# Altium footprint library PCB_Library.PcbLib: 28 footprints (part 1 of 2)
Each footprint in its own frame and in the unit in brackets; x right, y up, seen from the top. Pads: shape width x height; smd on the part's side, far side on the other; paste and mask are expansions set on the pad; w line width, h text height; cw(c..) or ccw(c..) is an arc to the next point about the centre after c.
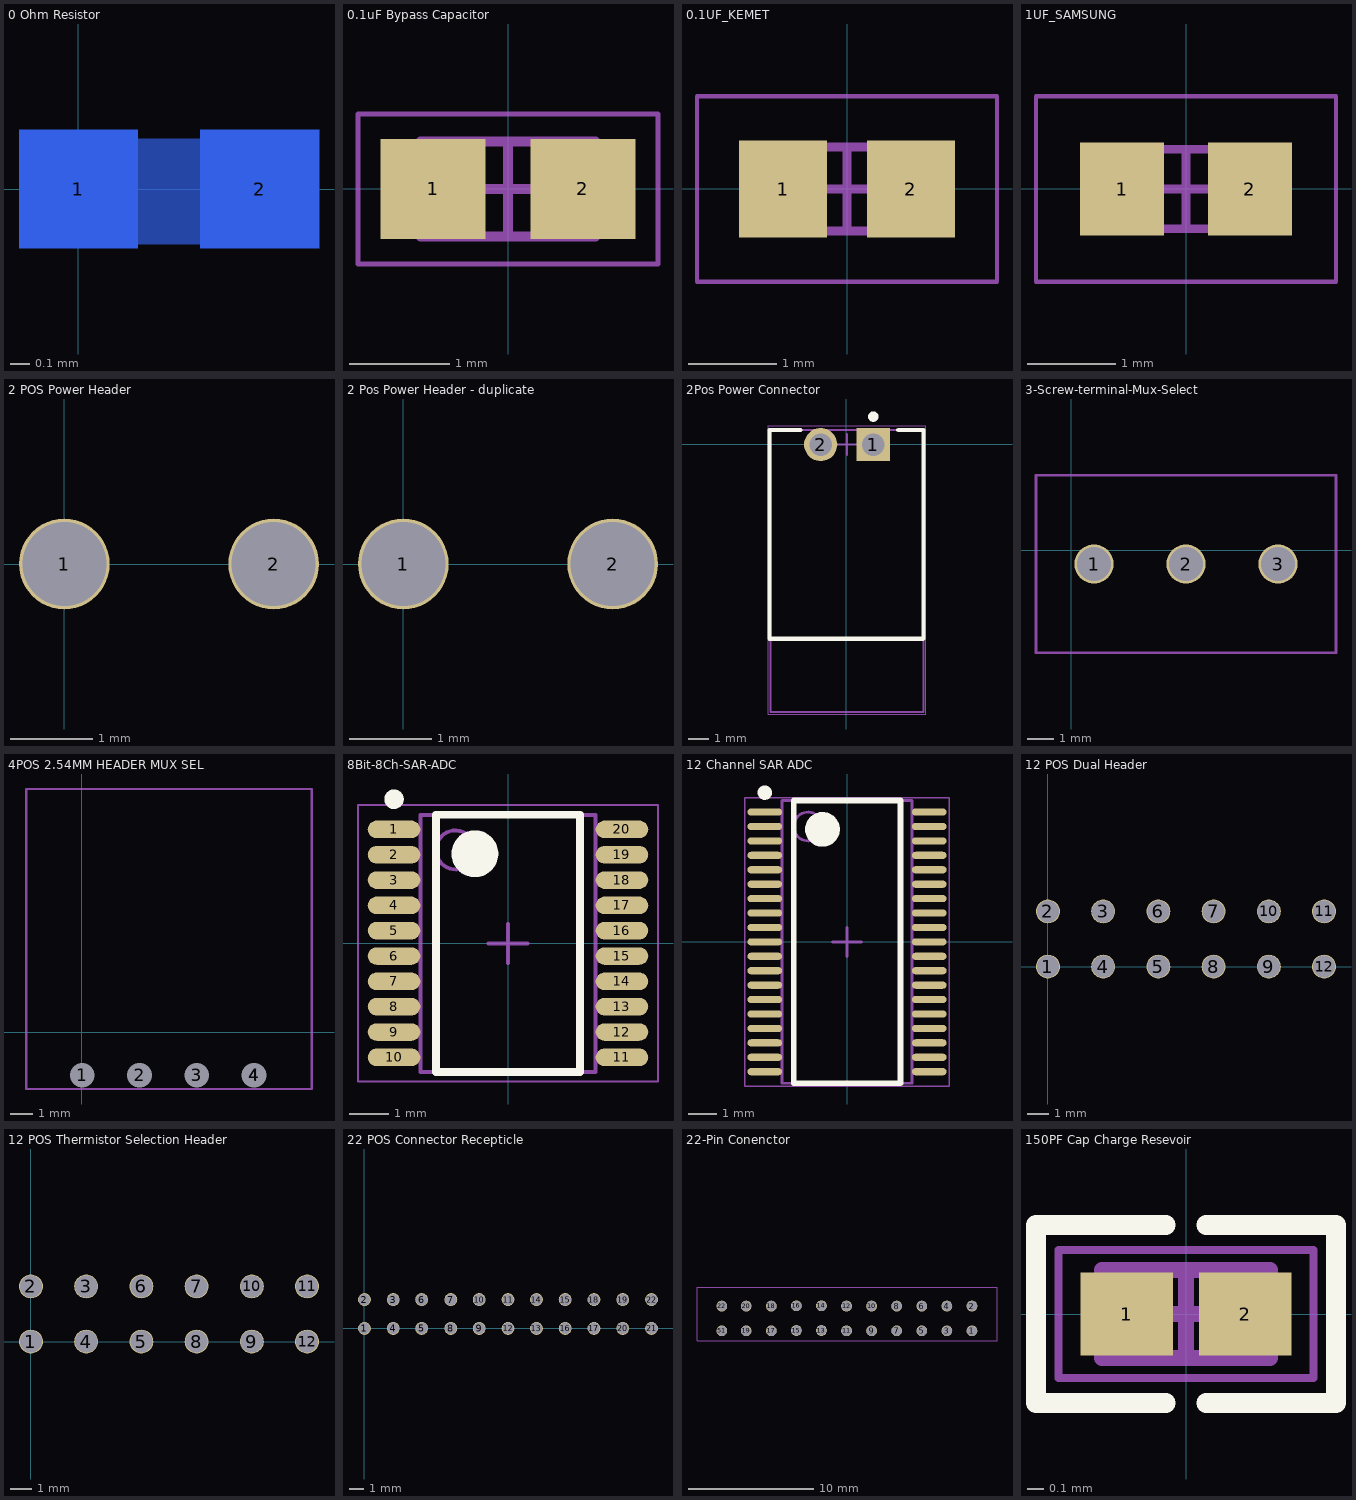
[diagram p0: the footprints below, top view; thin cyan lines are the x and y axes]

## 0 Ohm Resistor [mm]
pads (2):
  rect 0.6x0.6 smd far side: 1(0,0) 2(0.914,0)
Bottom Layer:
  rectangle: 0.254,-0.279 0.66,0.254

## 0.1uF Bypass Capacitor [mm] "Chip Capacitor, 2-Leads, Body 1.60x0.80mm, IPC Medium Density"
height 0.9
pads (2):
  rect 1.05x1 smd: 1(-0.75,0) 2(0.75,0)
Mechanical 13:
  lines w0.1: -0.875,-0.475 -0.875,0.475 0.875,0.475 0.875,-0.475 -0.875,-0.475
Mechanical 15:
  lines w0.05: -1.5,-0.75 -1.5,0.75 1.5,0.75 1.5,-0.75 -1.5,-0.75
  lines w0.1: -0.475,0 0.475,0 ; 0,-0.475 0,0.475
3D body "0.1uF Bypass Capacitor.step": height 0.9, standoff 0, extent -0.875,-0.475 0.875,0.475

## 0.1UF_KEMET [mm]
pads (2):
  rect 1x1.1 smd: 1(-0.725,0) 2(0.725,0)
Mechanical 13:
  lines w0.1: -0.875,-0.475 0.875,-0.475 0.875,0.475 -0.875,0.475 -0.875,-0.475
Mechanical 15:
  lines w0.05: -1.7,-1.05 1.7,-1.05 1.7,1.05 -1.7,1.05 -1.7,-1.05
  lines w0.1: -0.475,0 0.475,0 ; 0,-0.475 0,0.475
3D body "CAPC1608X09M.step": height 0.92, standoff 0, extent -0.875,-0.475 0.875,0.475

## 1UF_SAMSUNG [mm]
pads (2):
  rect 0.95x1.05 smd: 1(-0.725,0) 2(0.725,0)
Mechanical 13:
  lines w0.1: -0.85,-0.45 0.85,-0.45 0.85,0.45 -0.85,0.45 -0.85,-0.45
Mechanical 15:
  lines w0.05: -1.7,-1.05 1.7,-1.05 1.7,1.05 -1.7,1.05 -1.7,-1.05
  lines w0.1: -0.45,0 0.45,0 ; 0,-0.45 0,0.45
3D body "CAPC1608X09M.step": height 0.9, standoff 0, extent -0.85,-0.45 0.85,0.45

## 2 POS Power Header [mm] "Connecting Power between boards"
pads (2):
  round 1.1 hole 1.02: 1(0,0) 2(2.54,0)
3D body "929715-06-01.STEP": height 10.04, standoff -17.99, extent -1.536,-1.295 3.924,1.245

## 2 Pos Power Header - duplicate [mm] "Without 3D body,"
pads (2):
  round 1.1 hole 1.02: 1(0,0) 2(2.54,0)

## 2Pos Power Connector [mm]
pads (2):
  rect 1.6x1.6 hole 1.09: 1(1.295,-0.025)
  round 1.6 hole 1.09: 2(-1.245,-0.025)
Top Overlay:
  circle w0.25: c1.295,1.325 r0.125
  lines w0.2: -2.22,0.675 -3.708,0.675 -3.708,-9.385 3.696,-9.385 3.71,-9.371 3.71,0.675 2.495,0.675
Mechanical 13:
  lines w0.1: -3.66,-12.915 -3.66,0.675 3.71,0.675 3.71,-12.915 -3.66,-12.915
Mechanical 15:
  lines w0.05: -3.76,-13.015 3.81,-13.015 3.81,0.875 -3.76,0.875 -3.76,-13.015
  lines w0.1: -0.475,-0.025 0.525,-0.025 ; 0.025,-0.525 0.025,0.475
3D body "705530001.stp": height 6.98, standoff -3.3, extent -3.658,-12.914 3.708,0.675

## 3-Screw-terminal-Mux-Select [mm]
pads (3):
  round 1.5 hole 1.3: 1(0.864,-0.533) 2(4.369,-0.533) 3(7.874,-0.533)
Mechanical 1:
  lines w0.1: -1.346,-3.912 9.449,-3.912 10.084,-3.912 10.084,-0.533 10.084,2.845 8.915,2.845 -1.346,2.845 -1.346,0.483 -1.346,-0.711 -1.346,-3.912
3D body "691103110003 (rev1).stp": height 8.5, standoff -3.7, extent -1.432,-4.084 10.068,2.916

## 4POS 2.54MM HEADER MUX SEL [mm]
pads (5):
  round 1 hole 1.09: 1(0.025,-1.905) 2(2.565,-1.905) 3(5.105,-1.905) 4(7.645,-1.905)
  round 0.8 hole 1.09: 4(7.645,-1.905)
Mechanical 1:
  lines w0.1: -2.464,-2.515 10.211,-2.515 10.211,-1.905 10.211,10.795 -2.464,10.795 -2.464,-1.905 -2.464,-2.515
3D body "705530108.stp": height 7.06, standoff -3.22, extent -2.515,-2.642 10.185,10.947

## 8Bit-8Ch-SAR-ADC [mm]
height 1.25
pads (20):
  oval 1.35x0.45 smd: 1(-2.925,2.925) 2(-2.925,2.275) 3(-2.925,1.625) 4(-2.925,0.975) 5(-2.925,0.325) 6(-2.925,-0.325) 7(-2.925,-0.975) 8(-2.925,-1.625) 9(-2.925,-2.275) 10(-2.925,-2.925) 11(2.925,-2.925) 12(2.925,-2.275) 13(2.925,-1.625) 14(2.925,-0.975) 15(2.925,-0.325) 16(2.925,0.325) 17(2.925,0.975) 18(2.925,1.625) 19(2.925,2.275) 20(2.925,2.925)
Top Overlay:
  circle w0.6: c-0.85,2.3 r0.3
  circle w0.25: c-2.925,3.7 r0.125
  lines w0.2: -1.85,-3.3 1.85,-3.3 1.85,3.3 -1.85,3.3 -1.85,-3.3
Mechanical 13:
  circle w0.1: c-1.35,2.4 r0.5
  lines w0.1: -2.25,-3.3 2.25,-3.3 2.25,3.3 -2.25,3.3 -2.25,-3.3
Mechanical 15:
  lines w0.05: -3.85,-3.55 3.85,-3.55 3.85,3.55 -3.85,3.55 -3.85,-3.55
  lines w0.1: -0.5,0 0.5,0 ; 0,-0.5 0,0.5
3D body "8Bit-8Ch-SAR-ADC.step": height 1.25, standoff 0, extent -3.2,-3.3 3.2,3.3

## 12 Channel SAR ADC [mm] "TSSOP, 38-Leads, Body 9.70x4.40mm, Pitch 0.50mm, IPC High Density"
height 1.2
pads (38):
  oval 1.2x0.25 smd: 1(-2.85,4.5) 2(-2.85,4) 3(-2.85,3.5) 4(-2.85,3) 5(-2.85,2.5) 6(-2.85,2) 7(-2.85,1.5) 8(-2.85,1) 9(-2.85,0.5) 10(-2.85,0) 11(-2.85,-0.5) 12(-2.85,-1) 13(-2.85,-1.5) 14(-2.85,-2) 15(-2.85,-2.5) 16(-2.85,-3) 17(-2.85,-3.5) 18(-2.85,-4) 19(-2.85,-4.5) 20(2.85,-4.5) 21(2.85,-4) 22(2.85,-3.5) 23(2.85,-3) 24(2.85,-2.5) 25(2.85,-2) 26(2.85,-1.5) 27(2.85,-1) 28(2.85,-0.5) 29(2.85,0) 30(2.85,0.5) 31(2.85,1) 32(2.85,1.5) 33(2.85,2) 34(2.85,2.5) 35(2.85,3) 36(2.85,3.5) 37(2.85,4) 38(2.85,4.5)
Top Overlay:
  circle w0.25: c-2.85,5.175 r0.125
  circle w0.6: c-0.85,3.9 r0.3
  lines w0.2: -1.85,-4.9 -1.85,4.9 1.85,4.9 1.85,-4.9 -1.85,-4.9
Mechanical 13:
  circle w0.1: c-1.35,4 r0.5
  lines w0.1: -2.25,-4.9 -2.25,4.9 2.25,4.9 2.25,-4.9 -2.25,-4.9
Mechanical 15:
  lines w0.05: -3.55,-5 -3.55,5 3.55,5 3.55,-5 -3.55,-5
  lines w0.1: -0.5,0 0.5,0 ; 0,-0.5 0,0.5
3D body "12 Channel SAR ADC.step": height 1.2, standoff 0, extent -3.2,-4.9 3.2,4.9

## 12 POS Dual Header [mm] "Board to Board ADC Channel Header"
pads (12):
  round 1.1 hole 1.02: 1(0,0) 2(0,2.54) 3(2.54,2.54) 4(2.54,0) 5(5.08,0) 6(5.08,2.54) 7(7.62,2.54) 8(7.62,0) 9(10.16,0) 10(10.16,2.54) 11(12.7,2.54) 12(12.7,0)
3D body "929715-06-06.STEP": height 20.46, standoff -7.94, extent -1.27,-3.181 13.97,4.701

## 12 POS Thermistor Selection Header [mm] "Jumpers are placed here to select which pin on ADC header"
pads (12):
  round 1.1 hole 1.02: 1(0,0) 2(0,2.54) 3(2.54,2.54) 4(2.54,0) 5(5.08,0) 6(5.08,2.54) 7(7.62,2.54) 8(7.62,0) 9(10.16,0) 10(10.16,2.54) 11(12.7,2.54) 12(12.7,0)
3D body "67996-212HLF.step": height 8.89, standoff -5.08, extent -1.27,-1.321 13.97,3.759

## 22 POS Connector Recepticle [mm]
pads (22):
  round 0.9 hole 0.8: 1(0,0) 2(0,2.007) 3(2.007,2.007) 4(2.007,0) 5(3.988,0) 6(3.988,2.007) 7(6.02,2.007) 8(6.02,0) 9(8.001,0) 10(8.001,2.007) 11(10.008,2.007) 12(10.008,0) 13(11.989,0) 14(11.989,2.007) 15(13.995,2.007) 16(13.995,0) 17(16.002,0) 18(16.002,2.007) 19(18.009,2.007) 20(18.009,0) 21(20.015,0) 22(20.015,2.007)
3D body "DF11-22DS-2DSA.stp": height 5.8, standoff -3.4, extent -1.953,-1.535 22.047,3.465

## 22-Pin Conenctor [mil]
pads (22):
  round 34 hole 31.5: 1(-13017,13484) 2(-13017,13562) 3(-13096,13484) 4(-13096,13562) 5(-13175,13484) 6(-13175,13562) 7(-13254,13484) 8(-13254,13562) 9(-13333,13484) 10(-13333,13562) 11(-13412,13484) 12(-13412,13562) 13(-13491,13485) 14(-13491,13563) 15(-13570,13485) 16(-13570,13563) 17(-13649,13484) 18(-13649,13562) 19(-13728,13484) 20(-13728,13562) 22(-13805,13562) 51(-13805,13484)
Mechanical 1:
  lines w1: -12938.13,13620.87 -13883,13621.98 -13883,13452.13 -12938.13,13452.13 -12938.13,13621.97
3D body "DF11-22DP-2DS.stp": height 199.03, standoff -115.93, extent -13883.44,13472 -12938.56,13865.7

## 150PF Cap Charge Resevoir [mm] "Charge Res Caps for ADC Input Channels"
height 0.55
pads (2):
  rect 0.58x0.52 smd: 1(-0.37,0) 2(0.37,0)
Top Overlay:
  lines w0.125: -0.127,-0.559 -0.94,-0.559 -0.94,0.559 -0.381,0.559 -0.127,0.559 ; 0.127,-0.559 0.94,-0.559 0.94,0.559 0.127,0.559
Mechanical 13:
  lines w0.1: -0.525,-0.275 -0.525,0.275 0.525,0.275 0.525,-0.275 -0.525,-0.275
Mechanical 15:
  lines w0.05: -0.8,-0.4 -0.8,0.4 0.8,0.4 0.8,-0.4 -0.8,-0.4
  lines w0.1: -0.275,0 0.275,0 ; 0,-0.275 0,0.275
3D body "150PF Cap Charge Resevoir.step": height 0.55, standoff 0, extent -0.525,-0.275 0.525,0.275